# EAGLE library part 74LVC14APW,118 (library NXP_By_element14_Batch_1)
Hex inverting Schmitt trigger with 5 V tolerant input
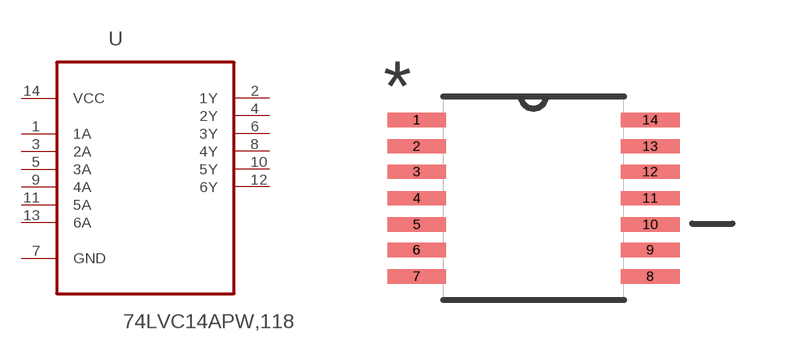
[diagram p229: symbol with the pads of SOP65P640X110-14N; footprint SOP65P640X110-14N]

Designator prefix U

## 74LVC14APW,118 (MPN: 74LVC14APW,118; OC_FARNELL: 1826648; OC_NEWARK: 78R7408; PACKAGE: TSSOP-14; SUPPLIER: NXP)  [SOP65P640X110-14N]
1  1A  in
2  1Y  out
3  2A  in
4  2Y  out
5  3A  in
6  3Y  out
7  GND  pas
8  4Y  out
9  4A  in
10  5Y  out
11  5A  in
12  6Y  out
13  6A  in
14  VCC  pwr

## Footprint SOP65P640X110-14N (pad centres in mm)
smd 1.473 x 0.356: 1 -2.921,1.956; 2 -2.921,1.295; 3 -2.921,0.66; 4 -2.921,0; 5 -2.921,-0.66; 6 -2.921,-1.295; 7 -2.921,-1.956; 8 2.921,-1.956; 9 2.921,-1.295; 10 2.921,-0.66; 11 2.921,0; 12 2.921,0.66; 13 2.921,1.295; 14 2.921,1.956